# EAGLE library part NT-50(SYPRIS) (library QuantumOptics)
Current Sensor, Sypris/F.W.Bell. Magneto-resistive current sensor, 50A = +2.5V, DC-100KHz, 3KVp galvanic isolation.
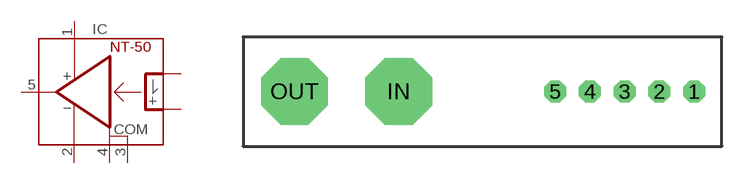
[diagram p22: symbol with the pads of NT-50(SYPRIS); footprint NT-50(SYPRIS)]

Designator prefix IC

## NT-50(SYPRIS)  [NT-50(SYPRIS)]
1  V+  in
2  V-  in
3  COM1  in
4  COM2  in
5  OUT  out
IN  I-IN  in
OUT  I-OUT  in

## Footprint NT-50(SYPRIS) (pad centres in mm)
Current Sensor, Sypris/F.W.Bell. Magneto-resistive current sensor, 50A = +2.5V, DC-100KHz, 3KVp galvanic isolation. Footprint is for typical vertical mount. Space devices with 20mm gap min.
drill 1.067 octagon: 1 13.97,0; 2 11.43,0; 3 8.89,0; 4 6.35,0; 5 3.81,0
drill 3.861 octagon: IN -7.62,0; OUT -15.24,0